# Altium footprint library ARJM11A1-009-AB.PcbLib: 1 footprints
Each footprint in its own frame and in the unit in brackets; x right, y up, seen from the top. Pads: shape width x height; smd on the part's side, far side on the other; paste and mask are expansions set on the pad; w line width, h text height; cw(c..) or ccw(c..) is an arc to the next point about the centre after c.
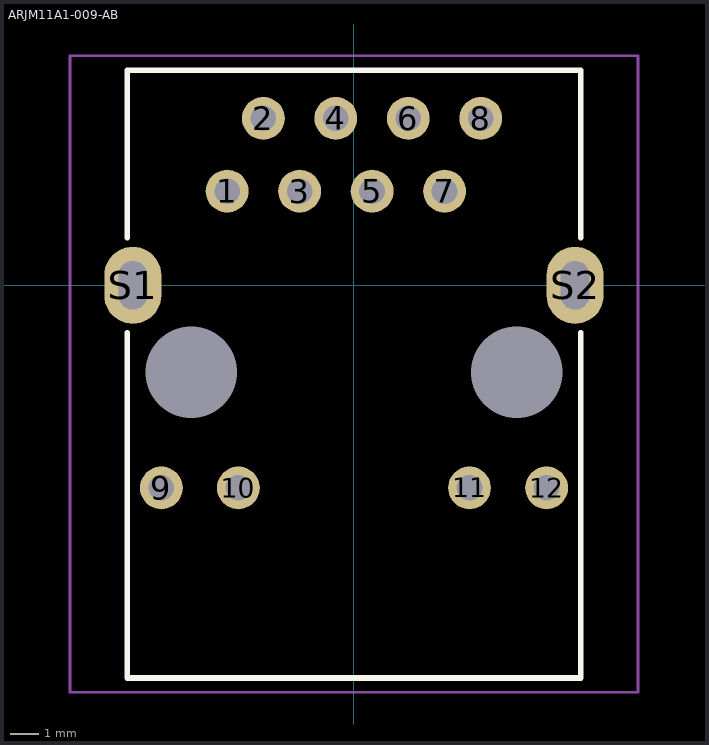
[diagram p0: the footprint, top view; thin cyan lines are the x and y axes]

## ARJM11A1-009-AB [mm]
pads (16):
  round 1.5 hole 0.9: 1(-4.445,3.3) 2(-3.175,5.85) 3(-1.905,3.3) 4(-0.635,5.85) 5(0.635,3.3) 6(1.905,5.85) 7(3.175,3.3) 8(4.445,5.85) 9(-6.75,-7.1) 10(-4.05,-7.1) 11(4.05,-7.1) 12(6.75,-7.1)
  oval 2x2.7 hole 1.7 slot 1 at 0 deg: S1(-7.75,0) S2(7.75,0)
  round 0.5 hole 3.2 unplated: ""(-5.7,-3.05) ""(5.7,-3.05)
Top Overlay:
  lines w0.2: -7.95,-1.66 -7.95,-13.76 7.95,-13.76 7.95,-1.66 ; -7.95,1.665 -7.95,7.54 6.075,7.54 7.95,7.54 7.95,1.665
Top Courtyard:
  lines w0.1: -9.947,-14.259 9.444,-14.259 9.949,-14.259 9.949,8.042 -9.947,8.042 -9.947,-14.259
3D body "ARJM11A1-009-AB(8P).stp": height 15.15, standoff -3.65, extent -9.449,-13.76 9.45,7.542